# EAGLE library part CONN-1X6 (library angrypig7-Connectors-Programming)
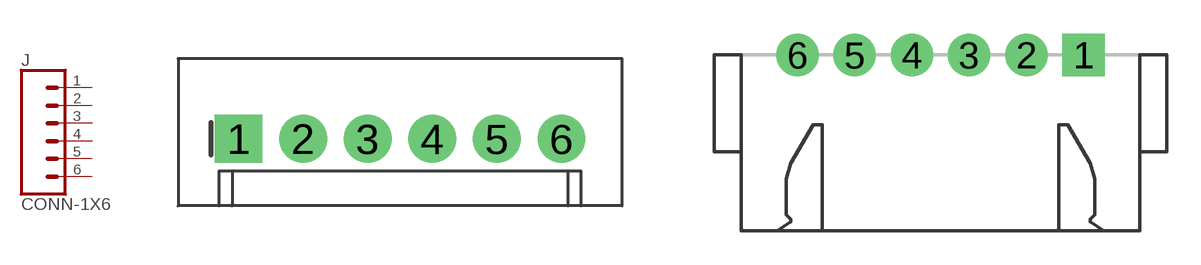
[diagram p9: symbol with the pads of XH-6P-2.54MM; footprints XH-6P-2.54MM, XH-6P-2.54MM-RIGHT]

Designator prefix J

## CONN-1X6  [XH-6P-2.54MM]
1  1  pas
2  2  pas
3  3  pas
4  4  pas
5  5  pas
6  6  pas

## CONN-1X6_RIGHT  [XH-6P-2.54MM-RIGHT]
Pads as for XH-6P-2.54MM

## Footprint XH-6P-2.54MM (pad centres in mm)
drill 1.016 pad 1.88 square: 1 -6.35,0
drill 1.016 pad 1.88: 2 -3.81,0; 3 -1.27,0; 4 1.27,0; 5 3.81,0; 6 6.35,0

## Footprint XH-6P-2.54MM-RIGHT (pad centres in mm)
drill 1.016 pad 1.88 square: 1 6.35,0
drill 1.016 pad 1.88: 2 3.81,0; 3 1.27,0; 4 -1.27,0; 5 -3.81,0; 6 -6.35,0